# EAGLE library part XS1-L02A-QF124 (library xmos)
XCORE Multicore Processor
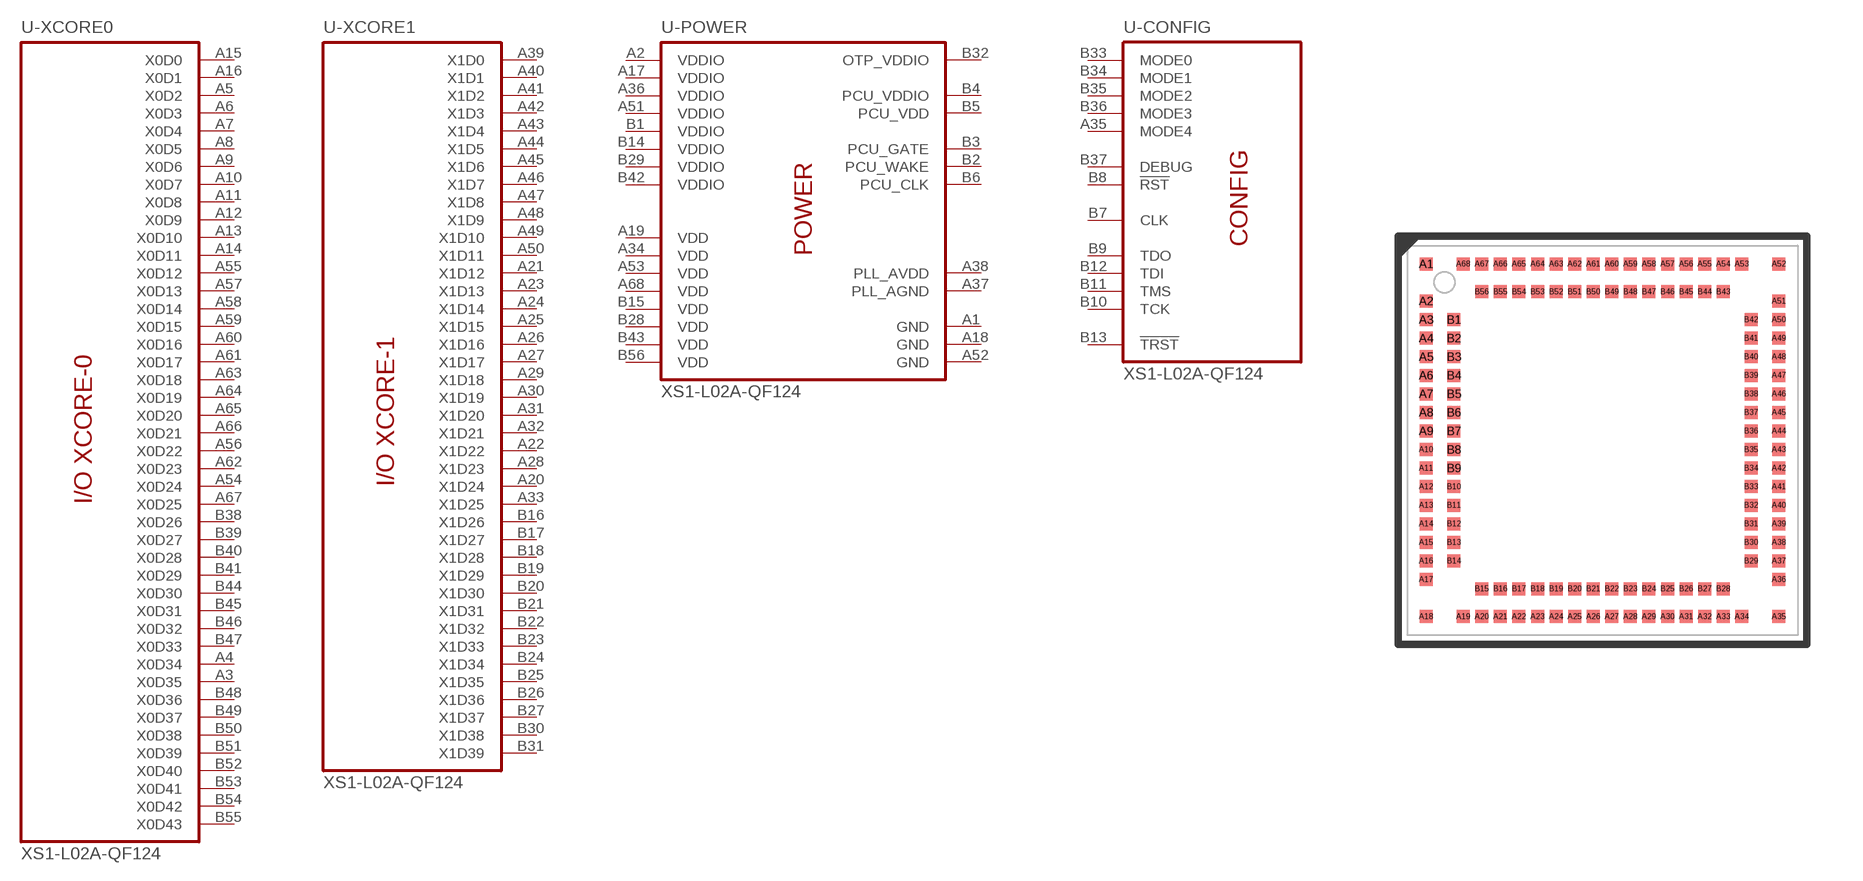
[diagram p0: symbol with the pads of QF124; footprint QF124]

Designator prefix U; gates -XCORE0=XS1-L02A-QF124-XCORE0-IO -XCORE1=XS1-L02A-QF124-XCORE1-IO -POWER=XS1-L02A-QF124-POWER -CONFIG=XS1-L02A-QF124-CONFIG

## XS1-L02A-QF124  [QF124]
A1  -POWER:GND  pwr
A2  -POWER:VDDIO  pwr
A3  -XCORE0:X0D35
A4  -XCORE0:X0D34
A5  -XCORE0:X0D2
A6  -XCORE0:X0D3
A7  -XCORE0:X0D4
A8  -XCORE0:X0D5
A9  -XCORE0:X0D6
A10  -XCORE0:X0D7
A11  -XCORE0:X0D8
A12  -XCORE0:X0D9
A13  -XCORE0:X0D10
A14  -XCORE0:X0D11
A15  -XCORE0:X0D0
A16  -XCORE0:X0D1
A17  -POWER:VDDIO  pwr
A18  -POWER:GND  pwr
A19  -POWER:VDD  pwr
A20  -XCORE1:X1D24
A21  -XCORE1:X1D12
A22  -XCORE1:X1D22
A23  -XCORE1:X1D13
A24  -XCORE1:X1D14
A25  -XCORE1:X1D15
A26  -XCORE1:X1D16
A27  -XCORE1:X1D17
A28  -XCORE1:X1D23
A29  -XCORE1:X1D18
A30  -XCORE1:X1D19
A31  -XCORE1:X1D20
A32  -XCORE1:X1D21
A33  -XCORE1:X1D25
A34  -POWER:VDD  pwr
A35  -CONFIG:MODE4  in
A36  -POWER:VDDIO  pwr
A37  -POWER:PLL_AGND  pwr
A38  -POWER:PLL_AVDD  pwr
A39  -XCORE1:X1D0
A40  -XCORE1:X1D1
A41  -XCORE1:X1D2
A42  -XCORE1:X1D3
A43  -XCORE1:X1D4
A44  -XCORE1:X1D5
A45  -XCORE1:X1D6
A46  -XCORE1:X1D7
A47  -XCORE1:X1D8
A48  -XCORE1:X1D9
A49  -XCORE1:X1D10
A50  -XCORE1:X1D11
A51  -POWER:VDDIO  pwr
A52  -POWER:GND  pwr
A53  -POWER:VDD  pwr
A54  -XCORE0:X0D24
A55  -XCORE0:X0D12
A56  -XCORE0:X0D22
A57  -XCORE0:X0D13
A58  -XCORE0:X0D14
A59  -XCORE0:X0D15
A60  -XCORE0:X0D16
A61  -XCORE0:X0D17
A62  -XCORE0:X0D23
A63  -XCORE0:X0D18
A64  -XCORE0:X0D19
A65  -XCORE0:X0D20
A66  -XCORE0:X0D21
A67  -XCORE0:X0D25
A68  -POWER:VDD  pwr
B1  -POWER:VDDIO  pwr
B2  -POWER:PCU_WAKE  in
B3  -POWER:PCU_GATE  out
B4  -POWER:PCU_VDDIO  pwr
B5  -POWER:PCU_VDD  pwr
B6  -POWER:PCU_CLK  in
B7  -CONFIG:CLK
B8  -CONFIG:!RST!  in
B9  -CONFIG:TDO
B10  -CONFIG:TCK
B11  -CONFIG:TMS
B12  -CONFIG:TDI
B13  -CONFIG:!TRST!
B14  -POWER:VDDIO  pwr
B15  -POWER:VDD  pwr
B16  -XCORE1:X1D26
B17  -XCORE1:X1D27
B18  -XCORE1:X1D28
B19  -XCORE1:X1D29
B20  -XCORE1:X1D30
B21  -XCORE1:X1D31
B22  -XCORE1:X1D32
B23  -XCORE1:X1D33
B24  -XCORE1:X1D34
B25  -XCORE1:X1D35
B26  -XCORE1:X1D36
B27  -XCORE1:X1D37
B28  -POWER:VDD  pwr
B29  -POWER:VDDIO  pwr
B30  -XCORE1:X1D38
B31  -XCORE1:X1D39
B32  -POWER:OTP_VDDIO  pwr
B33  -CONFIG:MODE0  in
B34  -CONFIG:MODE1  in
B35  -CONFIG:MODE2  in
B36  -CONFIG:MODE3  in
B37  -CONFIG:DEBUG  in
B38  -XCORE0:X0D26
B39  -XCORE0:X0D27
B40  -XCORE0:X0D28
B41  -XCORE0:X0D29
B42  -POWER:VDDIO  pwr
B43  -POWER:VDD  pwr
B44  -XCORE0:X0D30
B45  -XCORE0:X0D31
B46  -XCORE0:X0D32
B47  -XCORE0:X0D33
B48  -XCORE0:X0D36
B49  -XCORE0:X0D37
B50  -XCORE0:X0D38
B51  -XCORE0:X0D39
B52  -XCORE0:X0D40
B53  -XCORE0:X0D41
B54  -XCORE0:X0D42
B55  -XCORE0:X0D43
B56  -POWER:VDD  pwr

## Footprint QF124 (pad centres in mm)
QFN 124 body 10x10mm, pitch 0.5mm
smd 0.35 x 0.35: A1 -4.75,4.75; A2 -4.75,3.75; A3 -4.75,3.25; A4 -4.75,2.75; A5 -4.75,2.25; A6 -4.75,1.75; A7 -4.75,1.25; A8 -4.75,0.75; A9 -4.75,0.25; A10 -4.75,-0.25; A11 -4.75,-0.75; A12 -4.75,-1.25; A13 -4.75,-1.75; A14 -4.75,-2.25; A15 -4.75,-2.75; A16 -4.75,-3.25; A17 -4.75,-3.75; A18 -4.75,-4.75; A19 -3.75,-4.75; A20 -3.25,-4.75; A21 -2.75,-4.75; A22 -2.25,-4.75; A23 -1.75,-4.75; A24 -1.25,-4.75; A25 -0.75,-4.75; A26 -0.25,-4.75; A27 0.25,-4.75; A28 0.75,-4.75; A29 1.25,-4.75; A30 1.75,-4.75; A31 2.25,-4.75; A32 2.75,-4.75; A33 3.25,-4.75; A34 3.75,-4.75; A35 4.75,-4.75; A36 4.75,-3.75; A37 4.75,-3.25; A38 4.75,-2.75; A39 4.75,-2.25; A40 4.75,-1.75; A41 4.75,-1.25; A42 4.75,-0.75; A43 4.75,-0.25; A44 4.75,0.25; A45 4.75,0.75; A46 4.75,1.25; A47 4.75,1.75; A48 4.75,2.25; A49 4.75,2.75; A50 4.75,3.25; A51 4.75,3.75; A52 4.75,4.75; A53 3.75,4.75; A54 3.25,4.75; A55 2.75,4.75; A56 2.25,4.75; A57 1.75,4.75; A58 1.25,4.75; A59 0.75,4.75; A60 0.25,4.75; A61 -0.25,4.75; A62 -0.75,4.75; A63 -1.25,4.75; A64 -1.75,4.75; A65 -2.25,4.75; A66 -2.75,4.75; A67 -3.25,4.75; A68 -3.75,4.75; B1 -4,3.25; B2 -4,2.75; B3 -4,2.25; B4 -4,1.75; B5 -4,1.25; B6 -4,0.75; B7 -4,0.25; B8 -4,-0.25; B9 -4,-0.75; B10 -4,-1.25; B11 -4,-1.75; B12 -4,-2.25; B13 -4,-2.75; B14 -4,-3.25; B15 -3.25,-4; B16 -2.75,-4; B17 -2.25,-4; B18 -1.75,-4; B19 -1.25,-4; B20 -0.75,-4; B21 -0.25,-4; B22 0.25,-4; B23 0.75,-4; B24 1.25,-4; B25 1.75,-4; B26 2.25,-4; B27 2.75,-4; B28 3.25,-4; B29 4,-3.25; B30 4,-2.75; B31 4,-2.25; B32 4,-1.75; B33 4,-1.25; B34 4,-0.75; B35 4,-0.25; B36 4,0.25; B37 4,0.75; B38 4,1.25; B39 4,1.75; B40 4,2.25; B41 4,2.75; B42 4,3.25; B43 3.25,4; B44 2.75,4; B45 2.25,4; B46 1.75,4; B47 1.25,4; B48 0.75,4; B49 0.25,4; B50 -0.25,4; B51 -0.75,4; B52 -1.25,4; B53 -1.75,4; B54 -2.25,4; B55 -2.75,4; B56 -3.25,4